# Altium footprint library WQFN_RSN.PcbLib: 3 footprints
Each footprint in its own frame and in the unit in brackets; x right, y up, seen from the top. Pads: shape width x height; smd on the part's side, far side on the other; paste and mask are expansions set on the pad; w line width, h text height; cw(c..) or ccw(c..) is an arc to the next point about the centre after c.
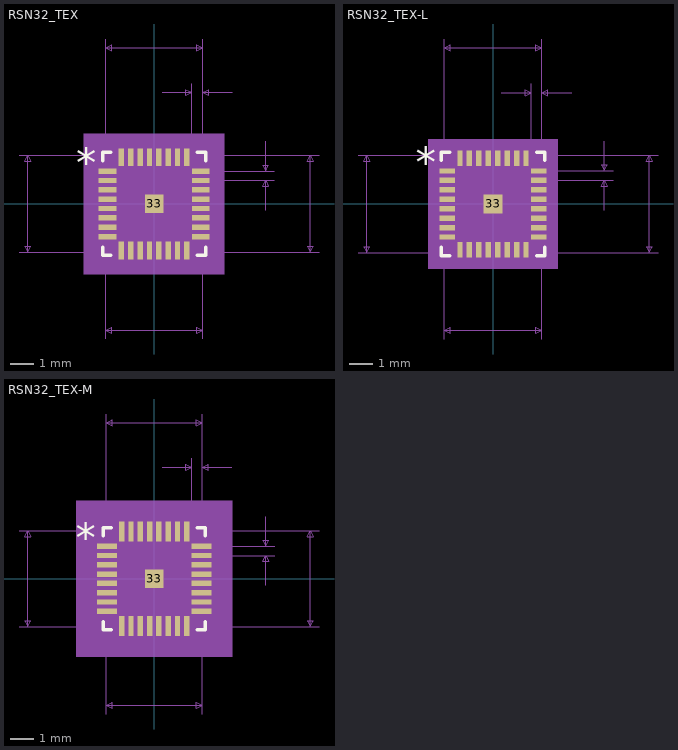
[diagram p0: the footprints below, top view; thin cyan lines are the x and y axes]

## RSN32_TEX [mm]
pads (33):
  rect 0.229x0.757 smd paste+0 mask+0: 1(1.4,1.991) 2(1,1.991) 3(0.6,1.991) 4(0.2,1.991) 5(-0.2,1.991) 6(-0.6,1.991) 7(-1,1.991) 8(-1.4,1.991) 17(-1.4,-1.991) 18(-1,-1.991) 19(-0.6,-1.991) 20(-0.2,-1.991) 21(0.2,-1.991) 22(0.6,-1.991) 23(1,-1.991) 24(1.4,-1.991)
  rect 0.757x0.229 smd paste+0 mask+0: 9(-1.991,1.4) 10(-1.991,1) 11(-1.991,0.6) 12(-1.991,0.2) 13(-1.991,-0.2) 14(-1.991,-0.6) 15(-1.991,-1) 16(-1.991,-1.4) 25(1.991,-1.4) 26(1.991,-1) 27(1.991,-0.6) 28(1.991,-0.2) 29(1.991,0.2) 30(1.991,0.6) 31(1.991,1) 32(1.991,1.4)
  rect 0.787x0.787 smd paste+0 mask+0: 33(0,0)
Top Overlay:
  lines w0.152: -2.197,-1.847 -2.197,-2.197 -1.847,-2.197 ; -2.197,1.847 -2.197,2.197 -1.847,2.197 ; 1.847,-2.197 2.197,-2.197 2.197,-1.847 ; 1.847,2.197 2.197,2.197 2.197,1.847
  text "*" at -3.325,1.146 h1.27
Mechanical 5:
  region: 3.005,-3.005 -3.005,-3.005 -3.005,3.005 3.005,3.005
Mechanical 7:
  lines w0.025: -5.776,-2.07 2.07,-2.07 ; -5.776,2.07 2.07,2.07 2.07,-5.776 ; -2.07,-5.776 -2.07,2.07 ; -2.07,1.4 -2.07,7.046 ; 0.343,4.76 1.613,4.76 ; 1.4,-2.07 7.046,-2.07 ; 1.4,2.07 7.046,2.07 ; 1.613,1.4 1.613,5.141 ; 1.991,1 5.141,1 ; 1.991,1.4 5.141,1.4 ; 2.07,5.141 2.07,1.4 2.07,7.046 ; 3.34,4.76 2.07,4.76 ; 4.76,-0.27 4.76,1 ; 4.76,2.67 4.76,1.4 ; -5.395,-2.07 -5.268,-1.816 -5.522,-1.816 -5.395,-2.07 ; -5.395,-2.07 -5.395,2.07 ; -5.395,2.07 -5.268,1.816 -5.522,1.816 -5.395,2.07 ; -2.07,-5.395 -1.816,-5.522 -1.816,-5.268 -2.07,-5.395 ; -2.07,-5.395 2.07,-5.395 ; -2.07,6.665 -1.816,6.538 -1.816,6.792 -2.07,6.665 ; -2.07,6.665 2.07,6.665 ; 1.613,4.76 1.359,4.633 1.359,4.887 1.613,4.76 ; 2.07,-5.395 1.816,-5.522 1.816,-5.268 2.07,-5.395 ; 2.07,4.76 2.324,4.633 2.324,4.887 2.07,4.76 ; 2.07,6.665 1.816,6.538 1.816,6.792 2.07,6.665 ; 4.76,1 4.887,0.746 4.633,0.746 4.76,1 ; 4.76,1.4 4.887,1.654 4.633,1.654 4.76,1.4 ; 6.665,-2.07 6.792,-1.816 6.538,-1.816 6.665,-2.07 ; 6.665,-2.07 6.665,2.07 ; 6.665,2.07 6.792,1.816 6.538,1.816 6.665,2.07
  text "0.163in/4.14mm" at -2.222,-6.538 h0.64
  text "0.163in/4.14mm" at -10.348,-0.318 h0.64
  text "0.163in/4.14mm" at 7.173,-0.318 h0.64
  text "0.163in/4.14mm" at -2.222,7.173 h0.64
  text "0.018in/0.457mm" at -0.54,5.268 h0.64
  text "0.016in/0.4mm" at 5.268,0.883 h0.64
  text "Alt 2 Padstyle: b229_152h76" at -8.572,-14.666 h1.27
  text "Alt 1 Padstyle: b152_229h76" at -8.572,-13.142 h1.27
  text "Heat Tab Padstyle: r79_79" at -7.938,-10.094 h1.27
  text "Default Padstyle: r23_76" at -7.62,-8.57 h1.27
Mechanical 13:
  lines w0.025: -2.07,-2.07 -2.07,2.07 2.07,2.07 2.07,-2.07 -2.07,-2.07 ; -2.07,-1.527 -2.07,-1.273 -2.07,-1.527 ; -2.07,-1.127 -2.07,-0.873 -2.07,-1.127 ; -2.07,-0.727 -2.07,-0.473 -2.07,-0.727 ; -2.07,-0.327 -2.07,-0.073 -2.07,-0.327 ; -2.07,0.073 -2.07,0.327 -2.07,0.073 ; -2.07,0.473 -2.07,0.727 -2.07,0.473 ; -2.07,0.873 -2.07,1.127 -2.07,0.873 ; -2.07,1.273 -2.07,1.527 -2.07,1.273 ; -1.527,-2.07 -1.273,-2.07 -1.527,-2.07 ; -1.527,2.07 -1.273,2.07 -1.527,2.07 ; -1.127,-2.07 -0.873,-2.07 -1.127,-2.07 ; -1.127,2.07 -0.873,2.07 -1.127,2.07 ; -0.727,-2.07 -0.473,-2.07 -0.727,-2.07 ; -0.727,2.07 -0.473,2.07 -0.727,2.07 ; -0.327,-2.07 -0.073,-2.07 -0.327,-2.07 ; -0.327,2.07 -0.073,2.07 -0.327,2.07 ; 0.073,-2.07 0.327,-2.07 0.073,-2.07 ; 0.073,2.07 0.327,2.07 0.073,2.07 ; 0.473,-2.07 0.727,-2.07 0.473,-2.07 ; 0.473,2.07 0.727,2.07 0.473,2.07 ; 0.873,-2.07 1.127,-2.07 0.873,-2.07 ; 0.873,2.07 1.127,2.07 0.873,2.07 ; 1.273,-2.07 1.527,-2.07 1.273,-2.07 ; 1.273,2.07 1.527,2.07 1.273,2.07 ; 2.07,-1.527 2.07,-1.273 2.07,-1.527 ; 2.07,-1.127 2.07,-0.873 2.07,-1.127 ; 2.07,-0.727 2.07,-0.473 2.07,-0.727 ; 2.07,-0.327 2.07,-0.073 2.07,-0.327 ; 2.07,0.073 2.07,0.327 2.07,0.073 ; 2.07,0.473 2.07,0.727 2.07,0.473 ; 2.07,0.873 2.07,1.127 2.07,0.873 ; 2.07,1.273 2.07,1.527 2.07,1.273
  text "*" at -1.896,1.235 h0.64
Mechanical 15:
  region: -1.769,-2.324 -2.324,-2.324 -2.324,-1.769 -2.624,-1.769 -2.624,1.769 -2.324,1.769 -2.324,2.324 -1.769,2.324 -1.769,2.624 1.769,2.624 1.769,2.324 2.324,2.324 2.324,1.769 2.624,1.769 2.624,-1.769 2.324,-1.769 2.324,-2.324 1.769,-2.324 1.769,-2.624 -1.769,-2.624
  lines w0.152: -2.624,-1.769 -2.624,1.769 -2.324,1.769 -2.324,2.324 -1.769,2.324 -1.769,2.624 1.769,2.624 1.769,2.324 2.324,2.324 2.324,1.769 2.624,1.769 2.624,-1.769 2.324,-1.769 2.324,-2.324 1.769,-2.324 1.769,-2.624 -1.769,-2.624 -1.769,-2.324 -2.324,-2.324 -2.324,-1.769 -2.624,-1.769
3D body "WQFN_RSN32_4P15X4P15.stp": height 0.8, standoff 0, extent -2,-2 2,2

## RSN32_TEX-L [mm]
pads (33):
  rect 0.229x0.657 smd paste+0 mask+0: 1(1.4,1.941) 2(1,1.941) 3(0.6,1.941) 4(0.2,1.941) 5(-0.2,1.941) 6(-0.6,1.941) 7(-1,1.941) 8(-1.4,1.941) 17(-1.4,-1.941) 18(-1,-1.941) 19(-0.6,-1.941) 20(-0.2,-1.941) 21(0.2,-1.941) 22(0.6,-1.941) 23(1,-1.941) 24(1.4,-1.941)
  rect 0.657x0.229 smd paste+0 mask+0: 9(-1.941,1.4) 10(-1.941,1) 11(-1.941,0.6) 12(-1.941,0.2) 13(-1.941,-0.2) 14(-1.941,-0.6) 15(-1.941,-1) 16(-1.941,-1.4) 25(1.941,-1.4) 26(1.941,-1) 27(1.941,-0.6) 28(1.941,-0.2) 29(1.941,0.2) 30(1.941,0.6) 31(1.941,1) 32(1.941,1.4)
  rect 0.787x0.787 smd paste+0 mask+0: 33(0,0)
Top Overlay:
  lines w0.152: -2.197,-1.847 -2.197,-2.197 -1.847,-2.197 ; -2.197,1.847 -2.197,2.197 -1.847,2.197 ; 1.847,-2.197 2.197,-2.197 2.197,-1.847 ; 1.847,2.197 2.197,2.197 2.197,1.847
  text "*" at -3.275,1.146 h1.27
Mechanical 5:
  region: 2.753,-2.753 -2.753,-2.753 -2.753,2.753 2.753,2.753
Mechanical 7:
  lines w0.025: -5.726,-2.07 2.07,-2.07 ; -5.726,2.07 2.07,2.07 2.07,-5.726 ; -2.07,-5.726 -2.07,2.07 ; -2.07,1.4 -2.07,6.996 ; 0.343,4.71 1.613,4.71 ; 1.4,-2.07 6.996,-2.07 ; 1.4,2.07 6.996,2.07 ; 1.613,1.4 1.613,5.091 ; 1.941,1 5.091,1 ; 1.941,1.4 5.091,1.4 ; 2.07,5.091 2.07,1.4 2.07,6.996 ; 3.34,4.71 2.07,4.71 ; 4.71,-0.27 4.71,1 ; 4.71,2.67 4.71,1.4 ; -5.345,-2.07 -5.218,-1.816 -5.472,-1.816 -5.345,-2.07 ; -5.345,-2.07 -5.345,2.07 ; -5.345,2.07 -5.218,1.816 -5.472,1.816 -5.345,2.07 ; -2.07,-5.345 -1.816,-5.472 -1.816,-5.218 -2.07,-5.345 ; -2.07,-5.345 2.07,-5.345 ; -2.07,6.615 -1.816,6.488 -1.816,6.742 -2.07,6.615 ; -2.07,6.615 2.07,6.615 ; 1.613,4.71 1.359,4.583 1.359,4.837 1.613,4.71 ; 2.07,-5.345 1.816,-5.472 1.816,-5.218 2.07,-5.345 ; 2.07,4.71 2.324,4.583 2.324,4.837 2.07,4.71 ; 2.07,6.615 1.816,6.488 1.816,6.742 2.07,6.615 ; 4.71,1 4.837,0.746 4.583,0.746 4.71,1 ; 4.71,1.4 4.837,1.654 4.583,1.654 4.71,1.4 ; 6.615,-2.07 6.742,-1.816 6.488,-1.816 6.615,-2.07 ; 6.615,-2.07 6.615,2.07 ; 6.615,2.07 6.742,1.816 6.488,1.816 6.615,2.07
  text "0.163in/4.14mm" at -2.222,-6.488 h0.64
  text "0.163in/4.14mm" at -10.298,-0.318 h0.64
  text "0.163in/4.14mm" at 7.123,-0.318 h0.64
  text "0.163in/4.14mm" at -2.222,7.123 h0.64
  text "0.018in/0.457mm" at -0.54,5.218 h0.64
  text "0.016in/0.4mm" at 5.218,0.883 h0.64
  text "Alt 2 Padstyle: b229_152h76" at -8.572,-14.616 h1.27
  text "Alt 1 Padstyle: b152_229h76" at -8.572,-13.092 h1.27
  text "Heat Tab Padstyle: r79_79" at -7.938,-10.044 h1.27
  text "Default Padstyle: r23_66" at -7.62,-8.52 h1.27
Mechanical 13:
  lines w0.025: -2.07,-2.07 -2.07,2.07 2.07,2.07 2.07,-2.07 -2.07,-2.07 ; -2.07,-1.527 -2.07,-1.273 -2.07,-1.527 ; -2.07,-1.127 -2.07,-0.873 -2.07,-1.127 ; -2.07,-0.727 -2.07,-0.473 -2.07,-0.727 ; -2.07,-0.327 -2.07,-0.073 -2.07,-0.327 ; -2.07,0.073 -2.07,0.327 -2.07,0.073 ; -2.07,0.473 -2.07,0.727 -2.07,0.473 ; -2.07,0.873 -2.07,1.127 -2.07,0.873 ; -2.07,1.273 -2.07,1.527 -2.07,1.273 ; -1.527,-2.07 -1.273,-2.07 -1.527,-2.07 ; -1.527,2.07 -1.273,2.07 -1.527,2.07 ; -1.127,-2.07 -0.873,-2.07 -1.127,-2.07 ; -1.127,2.07 -0.873,2.07 -1.127,2.07 ; -0.727,-2.07 -0.473,-2.07 -0.727,-2.07 ; -0.727,2.07 -0.473,2.07 -0.727,2.07 ; -0.327,-2.07 -0.073,-2.07 -0.327,-2.07 ; -0.327,2.07 -0.073,2.07 -0.327,2.07 ; 0.073,-2.07 0.327,-2.07 0.073,-2.07 ; 0.073,2.07 0.327,2.07 0.073,2.07 ; 0.473,-2.07 0.727,-2.07 0.473,-2.07 ; 0.473,2.07 0.727,2.07 0.473,2.07 ; 0.873,-2.07 1.127,-2.07 0.873,-2.07 ; 0.873,2.07 1.127,2.07 0.873,2.07 ; 1.273,-2.07 1.527,-2.07 1.273,-2.07 ; 1.273,2.07 1.527,2.07 1.273,2.07 ; 2.07,-1.527 2.07,-1.273 2.07,-1.527 ; 2.07,-1.127 2.07,-0.873 2.07,-1.127 ; 2.07,-0.727 2.07,-0.473 2.07,-0.727 ; 2.07,-0.327 2.07,-0.073 2.07,-0.327 ; 2.07,0.073 2.07,0.327 2.07,0.073 ; 2.07,0.473 2.07,0.727 2.07,0.473 ; 2.07,0.873 2.07,1.127 2.07,0.873 ; 2.07,1.273 2.07,1.527 2.07,1.273
  text "*" at -1.846,1.235 h0.64
Mechanical 15:
  region: -1.616,-2.172 -2.172,-2.172 -2.172,-1.616 -2.372,-1.616 -2.372,1.616 -2.172,1.616 -2.172,2.172 -1.616,2.172 -1.616,2.372 1.616,2.372 1.616,2.172 2.172,2.172 2.172,1.616 2.372,1.616 2.372,-1.616 2.172,-1.616 2.172,-2.172 1.616,-2.172 1.616,-2.372 -1.616,-2.372
  lines w0.152: -2.372,-1.616 -2.372,1.616 -2.172,1.616 -2.172,2.172 -1.616,2.172 -1.616,2.372 1.616,2.372 1.616,2.172 2.172,2.172 2.172,1.616 2.372,1.616 2.372,-1.616 2.172,-1.616 2.172,-2.172 1.616,-2.172 1.616,-2.372 -1.616,-2.372 -1.616,-2.172 -2.172,-2.172 -2.172,-1.616 -2.372,-1.616
3D body "WQFN_RSN32_4P15X4P15.stp": height 0.8, standoff 0, extent -2,-2 2,2
3D body: height 0.25, standoff 0, extent 0,0 0.254,0.254

## RSN32_TEX-M [mm]
pads (33):
  rect 0.229x0.857 smd paste+0 mask+0: 1(1.4,2.041) 2(1,2.041) 3(0.6,2.041) 4(0.2,2.041) 5(-0.2,2.041) 6(-0.6,2.041) 7(-1,2.041) 8(-1.4,2.041) 17(-1.4,-2.041) 18(-1,-2.041) 19(-0.6,-2.041) 20(-0.2,-2.041) 21(0.2,-2.041) 22(0.6,-2.041) 23(1,-2.041) 24(1.4,-2.041)
  rect 0.857x0.229 smd paste+0 mask+0: 9(-2.041,1.4) 10(-2.041,1) 11(-2.041,0.6) 12(-2.041,0.2) 13(-2.041,-0.2) 14(-2.041,-0.6) 15(-2.041,-1) 16(-2.041,-1.4) 25(2.041,-1.4) 26(2.041,-1) 27(2.041,-0.6) 28(2.041,-0.2) 29(2.041,0.2) 30(2.041,0.6) 31(2.041,1) 32(2.041,1.4)
  rect 0.787x0.787 smd paste+0 mask+0: 33(0,0)
Top Overlay:
  lines w0.152: -2.197,-1.847 -2.197,-2.197 -1.847,-2.197 ; -2.197,1.847 -2.197,2.197 -1.847,2.197 ; 1.847,-2.197 2.197,-2.197 2.197,-1.847 ; 1.847,2.197 2.197,2.197 2.197,1.847
  text "*" at -3.375,1.146 h1.27
Mechanical 5:
  region: 3.359,-3.359 -3.359,-3.359 -3.359,3.359 3.359,3.359
Mechanical 7:
  lines w0.025: -5.826,-2.07 2.07,-2.07 ; -5.826,2.07 2.07,2.07 2.07,-5.826 ; -2.07,-5.826 -2.07,2.07 ; -2.07,1.4 -2.07,7.096 ; 0.343,4.81 1.613,4.81 ; 1.4,-2.07 7.096,-2.07 ; 1.4,2.07 7.096,2.07 ; 1.613,1.4 1.613,5.191 ; 2.041,1 5.191,1 ; 2.041,1.4 5.191,1.4 ; 2.07,5.191 2.07,1.4 2.07,7.096 ; 3.34,4.81 2.07,4.81 ; 4.81,-0.27 4.81,1 ; 4.81,2.67 4.81,1.4 ; -5.445,-2.07 -5.445,2.07 ; -5.445,-2.07 -5.572,-1.816 -5.318,-1.816 -5.445,-2.07 ; -5.445,2.07 -5.572,1.816 -5.318,1.816 -5.445,2.07 ; -2.07,-5.445 2.07,-5.445 ; -2.07,-5.445 -1.816,-5.318 -1.816,-5.572 -2.07,-5.445 ; -2.07,6.715 2.07,6.715 ; -2.07,6.715 -1.816,6.842 -1.816,6.588 -2.07,6.715 ; 1.613,4.81 1.359,4.937 1.359,4.683 1.613,4.81 ; 2.07,-5.445 1.816,-5.318 1.816,-5.572 2.07,-5.445 ; 2.07,4.81 2.324,4.937 2.324,4.683 2.07,4.81 ; 2.07,6.715 1.816,6.842 1.816,6.588 2.07,6.715 ; 4.81,1 4.683,0.746 4.937,0.746 4.81,1 ; 4.81,1.4 4.683,1.654 4.937,1.654 4.81,1.4 ; 6.715,-2.07 6.715,2.07 ; 6.715,-2.07 6.588,-1.816 6.842,-1.816 6.715,-2.07 ; 6.715,2.07 6.588,1.816 6.842,1.816 6.715,2.07
  text "Default Padstyle: r23_86" at -7.62,-8.62 h1.27
  text "Heat Tab Padstyle: r79_79" at -7.938,-10.144 h1.27
  text "Alt 1 Padstyle: b152_229h76" at -8.572,-13.192 h1.27
  text "Alt 2 Padstyle: b229_152h76" at -8.572,-14.716 h1.27
  text "0.016in/0.4mm" at 5.318,0.883 h0.64
  text "0.018in/0.457mm" at -0.54,5.318 h0.64
  text "0.163in/4.14mm" at -2.222,7.223 h0.64
  text "0.163in/4.14mm" at 7.223,-0.318 h0.64
  text "0.163in/4.14mm" at -10.398,-0.318 h0.64
  text "0.163in/4.14mm" at -2.222,-6.588 h0.64
Mechanical 13:
  lines w0.025: -2.07,-2.07 2.07,-2.07 2.07,2.07 -2.07,2.07 -2.07,-2.07 ; -2.07,-1.527 -2.07,-1.273 -2.07,-1.527 ; -2.07,-1.127 -2.07,-0.873 -2.07,-1.127 ; -2.07,-0.727 -2.07,-0.473 -2.07,-0.727 ; -2.07,-0.327 -2.07,-0.073 -2.07,-0.327 ; -2.07,0.073 -2.07,0.327 -2.07,0.073 ; -2.07,0.473 -2.07,0.727 -2.07,0.473 ; -2.07,0.873 -2.07,1.127 -2.07,0.873 ; -2.07,1.273 -2.07,1.527 -2.07,1.273 ; -1.527,-2.07 -1.273,-2.07 -1.527,-2.07 ; -1.527,2.07 -1.273,2.07 -1.527,2.07 ; -1.127,-2.07 -0.873,-2.07 -1.127,-2.07 ; -1.127,2.07 -0.873,2.07 -1.127,2.07 ; -0.727,-2.07 -0.473,-2.07 -0.727,-2.07 ; -0.727,2.07 -0.473,2.07 -0.727,2.07 ; -0.327,-2.07 -0.073,-2.07 -0.327,-2.07 ; -0.327,2.07 -0.073,2.07 -0.327,2.07 ; 0.073,-2.07 0.327,-2.07 0.073,-2.07 ; 0.073,2.07 0.327,2.07 0.073,2.07 ; 0.473,-2.07 0.727,-2.07 0.473,-2.07 ; 0.473,2.07 0.727,2.07 0.473,2.07 ; 0.873,-2.07 1.127,-2.07 0.873,-2.07 ; 0.873,2.07 1.127,2.07 0.873,2.07 ; 1.273,-2.07 1.527,-2.07 1.273,-2.07 ; 1.273,2.07 1.527,2.07 1.273,2.07 ; 2.07,-1.527 2.07,-1.273 2.07,-1.527 ; 2.07,-1.127 2.07,-0.873 2.07,-1.127 ; 2.07,-0.727 2.07,-0.473 2.07,-0.727 ; 2.07,-0.327 2.07,-0.073 2.07,-0.327 ; 2.07,0.073 2.07,0.327 2.07,0.073 ; 2.07,0.473 2.07,0.727 2.07,0.473 ; 2.07,0.873 2.07,1.127 2.07,0.873 ; 2.07,1.273 2.07,1.527 2.07,1.273
  text "*" at -1.946,1.235 h0.64
Mechanical 15:
  region: -2.023,-2.578 -2.578,-2.578 -2.578,-2.023 -2.978,-2.023 -2.978,2.023 -2.578,2.023 -2.578,2.578 -2.023,2.578 -2.023,2.978 2.023,2.978 2.023,2.578 2.578,2.578 2.578,2.023 2.978,2.023 2.978,-2.023 2.578,-2.023 2.578,-2.578 2.023,-2.578 2.023,-2.978 -2.023,-2.978
  lines w0.152: -2.978,-2.023 -2.578,-2.023 -2.578,-2.578 -2.023,-2.578 -2.023,-2.978 2.023,-2.978 2.023,-2.578 2.578,-2.578 2.578,-2.023 2.978,-2.023 2.978,2.023 2.578,2.023 2.578,2.578 2.023,2.578 2.023,2.978 -2.023,2.978 -2.023,2.578 -2.578,2.578 -2.578,2.023 -2.978,2.023 -2.978,-2.023
3D body "WQFN_RSN32_4P15X4P15.stp": height 0.8, standoff 0, extent -2,-2 2,2
3D body: height 0.25, standoff 0, extent 0,0 0.254,0.254